# EAGLE library part 83751 (library micro-intel)
MICROCOMPUTER/PERIPHERAL DEVICE
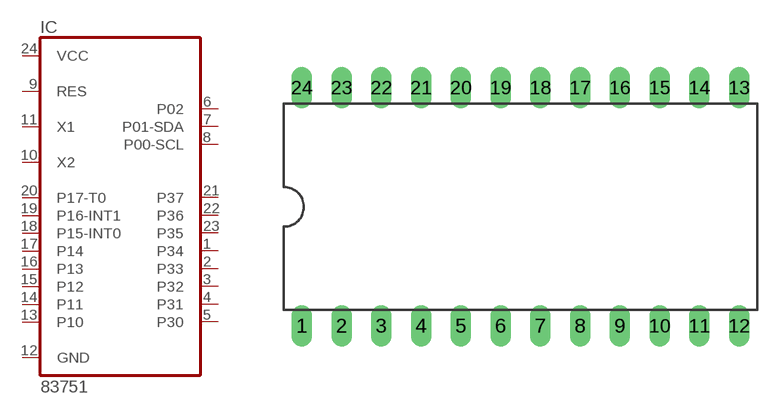
[diagram p30: symbol with the pads of DIL24-6; footprint DIL24-6]

Designator prefix IC

## 83751 (OC_FARNELL: unknown; OC_NEWARK: unknown)  [DIL24-6]
1  P34
2  P33
3  P32
4  P31
5  P30
6  P02
7  P01-SDA
8  P00-SCL
9  RES  in
10  X2  in
11  X1  in
12  GND  pwr
13  P10
14  P11
15  P12
16  P13
17  P14
18  P15-INT0
19  P16-INT1
20  P17-T0
21  P37
22  P36
23  P35
24  VCC  pwr

## Footprint DIL24-6 (pad centres in mm)
Dual In Line Package 0.6 inch
drill 0.813 long: 1 -13.97,-7.62; 2 -11.43,-7.62; 3 -8.89,-7.62; 4 -6.35,-7.62; 5 -3.81,-7.62; 6 -1.27,-7.62; 7 1.27,-7.62; 8 3.81,-7.62; 9 6.35,-7.62; 10 8.89,-7.62; 11 11.43,-7.62; 12 13.97,-7.62; 13 13.97,7.62; 14 11.43,7.62; 15 8.89,7.62; 16 6.35,7.62; 17 3.81,7.62; 18 1.27,7.62; 19 -1.27,7.62; 20 -3.81,7.62; 21 -6.35,7.62; 22 -8.89,7.62; 23 -11.43,7.62; 24 -13.97,7.62